# Altium schematic symbol library Reference_Voltage.SchLib: 263 symbols (part 2 of 3)
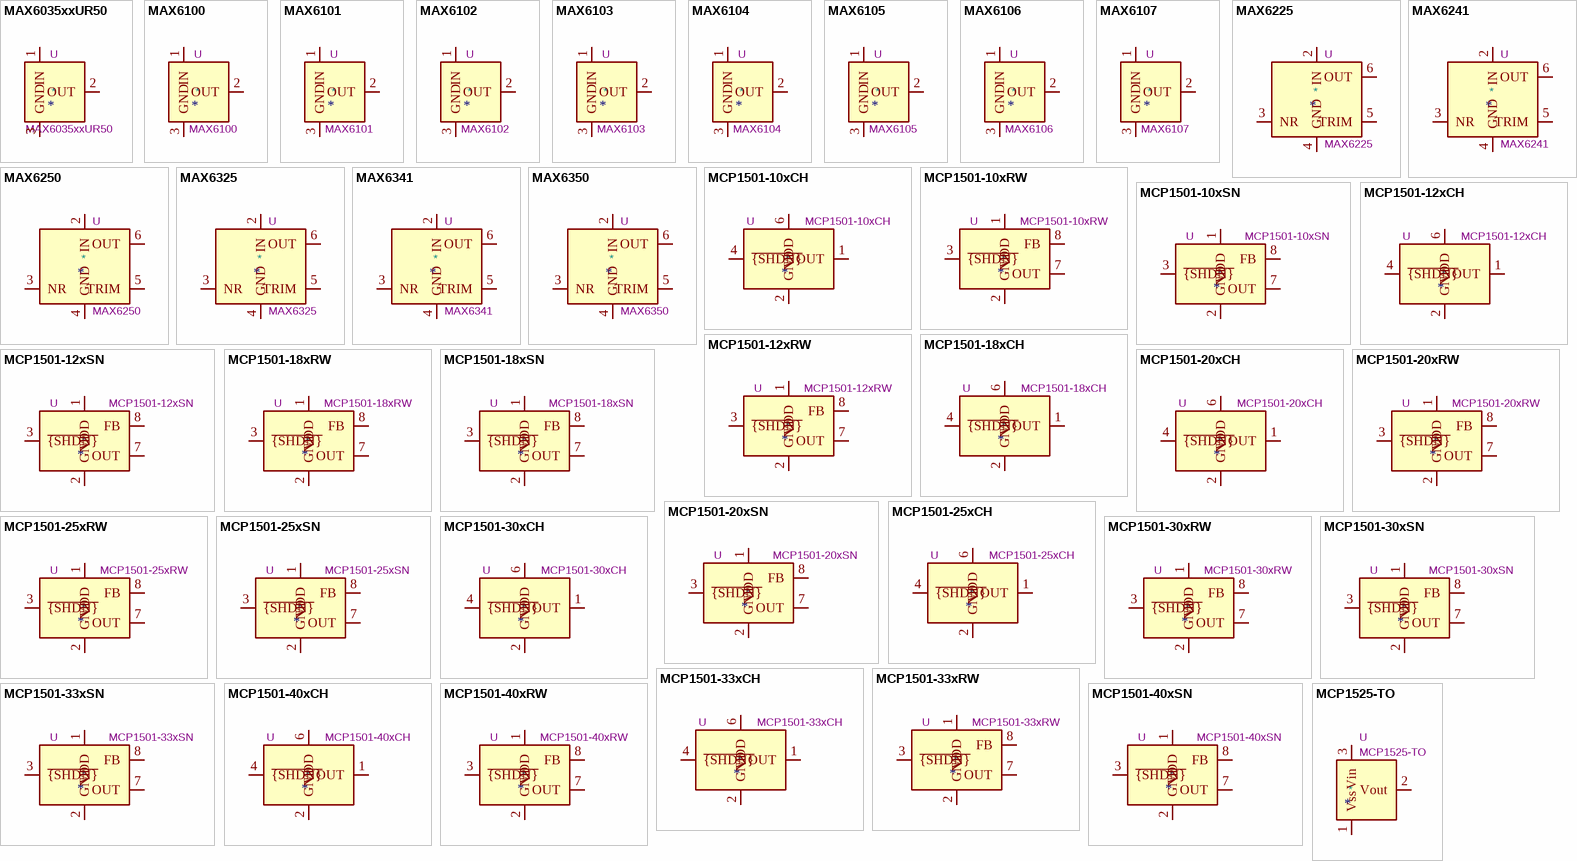
[diagram p7: symbols MAX6035xxUR50 to MCP1525-TO]

## MAX6107
designator *  value MAX6107  Reference: U
ki_keywords: voltage reference ldo; ki_description: Low-dropout high current voltage reference, 4.500V, ±0.4% accuracy, SOT-23; ki_fp_filters: SOT?23*; Footprint: Package_TO_SOT_SMD:SOT-23; Datasheet: http://datasheets.maximintegrated.com/en/ds/MAX6100-MAX6107.pdf
pins: 1 IN, 2 OUT, 3 GND

## MAX6225
designator *  value MAX6225  Reference: U
ki_keywords: precision voltage reference; ki_description: 1ppm/°C Low-Noise Precision +2.5V Voltage Reference, SO-8/DIP-8; ki_fp_filters: SOIC*P1.27mm* DIP*W7.62mm*; Datasheet: http://datasheets.maximintegrated.com/en/ds/MAX6225-MAX6250.pdf
pins: 1 NC hidden, 2 IN, 3 NR, 4 GND, 5 TRIM, 6 OUT, 7 NC hidden, 8 NC hidden

## MAX6241
designator *  value MAX6241  Reference: U
ki_keywords: precision voltage reference; ki_description: 1ppm/°C Low-Noise Precision +4.096V Voltage Reference, SO-8/DIP-8; ki_fp_filters: SOIC*P1.27mm* DIP*W7.62mm*; Datasheet: http://datasheets.maximintegrated.com/en/ds/MAX6225-MAX6250.pdf
pins: 1 NC hidden, 2 IN, 3 NR, 4 GND, 5 TRIM, 6 OUT, 7 NC hidden, 8 NC hidden

## MAX6250
designator *  value MAX6250  Reference: U
ki_keywords: precision voltage reference; ki_description: 1ppm/°C Low-Noise Precision +5V Voltage Reference, SO-8/DIP-8; ki_fp_filters: SOIC*P1.27mm* DIP*W7.62mm*; Datasheet: http://datasheets.maximintegrated.com/en/ds/MAX6225-MAX6250.pdf
pins: 1 NC hidden, 2 IN, 3 NR, 4 GND, 5 TRIM, 6 OUT, 7 NC hidden, 8 NC hidden

## MAX6325
designator *  value MAX6325  Reference: U
ki_keywords: precision voltage reference; ki_description: 0.5ppm/°C Low-Noise +2.5V Voltage Reference, SO-8/DIP-8; ki_fp_filters: SOIC*P1.27mm* DIP*W7.62mm*; Datasheet: http://datasheets.maximintegrated.com/en/ds/MAX6325-MAX6350.pdf
pins: 1 NC hidden, 2 IN, 3 NR, 4 GND, 5 TRIM, 6 OUT, 7 NC hidden, 8 NC hidden

## MAX6341
designator *  value MAX6341  Reference: U
ki_keywords: precision voltage reference; ki_description: 0.5ppm/°C Low-Noise +4.096V Voltage Reference, SO-8/DIP-8; ki_fp_filters: SOIC*P1.27mm* DIP*W7.62mm*; Datasheet: http://datasheets.maximintegrated.com/en/ds/MAX6325-MAX6350.pdf
pins: 1 NC hidden, 2 IN, 3 NR, 4 GND, 5 TRIM, 6 OUT, 7 NC hidden, 8 NC hidden

## MAX6350
designator *  value MAX6350  Reference: U
ki_keywords: precision voltage reference; ki_description: 0.5ppm/°C Low-Noise +5V Voltage Reference, SO-8/DIP-8; ki_fp_filters: SOIC*P1.27mm* DIP*W7.62mm*; Datasheet: http://datasheets.maximintegrated.com/en/ds/MAX6325-MAX6350.pdf
pins: 1 NC hidden, 2 IN, 3 NR, 4 GND, 5 TRIM, 6 OUT, 7 NC hidden, 8 NC hidden

## MCP1501-10xCH
designator *  value MCP1501-10xCH  Reference: U
ki_keywords: precision buffered voltage reference 1.024V; ki_description: 1.024V, 0.1%, 20mA, Precision Voltage Reference, SOT-23-6; ki_fp_filters: SOT?23*; Footprint: Package_TO_SOT_SMD:SOT-23-6; Datasheet: http://ww1.microchip.com/downloads/en/DeviceDoc/20005474E.pdf
pins: 1 OUT, 2 GND, 3 GND hidden, 4 ~{{SHDN}}, 5 GND hidden, 6 VDD

## MCP1501-10xRW
designator *  value MCP1501-10xRW  Reference: U
ki_keywords: precision buffered voltage reference 1.024V; ki_description: 1.024V, 0.1%, 20mA, Precision Voltage Reference, WDFN-8; ki_fp_filters: WDFN*1EP*2x2mm*P0.5mm*; Footprint: Package_DFN_QFN:WDFN-8-1EP_2x2mm_P0.5mm_EP0.8x1.2mm; Datasheet: http://ww1.microchip.com/downloads/en/DeviceDoc/20005474E.pdf
pins: 1 VDD, 2 GND, 3 ~{{SHDN}}, 4 GND hidden, 5 GND hidden, 6 GND hidden, 7 OUT, 8 FB

## MCP1501-10xSN
designator *  value MCP1501-10xSN  Reference: U
ki_keywords: precision buffered voltage reference 1.024V; ki_description: 1.024V, 0.1%, 20mA, Precision Voltage Reference, SOIC-8; ki_fp_filters: SOIC*3.9x4.9mm*P1.27mm*; Footprint: Package_SO:SOIC-8_3.9x4.9mm_P1.27mm; Datasheet: http://ww1.microchip.com/downloads/en/DeviceDoc/20005474E.pdf
pins: 1 VDD, 2 GND, 3 ~{{SHDN}}, 4 GND hidden, 5 GND hidden, 6 GND hidden, 7 OUT, 8 FB

## MCP1501-12xCH
designator *  value MCP1501-12xCH  Reference: U
ki_keywords: precision buffered voltage reference 1.25V; ki_description: 1.25V, 0.1%, 20mA, Precision Voltage Reference, SOT-23-6; ki_fp_filters: SOT?23*; Footprint: Package_TO_SOT_SMD:SOT-23-6; Datasheet: http://ww1.microchip.com/downloads/en/DeviceDoc/20005474E.pdf
pins: 1 OUT, 2 GND, 3 GND hidden, 4 ~{{SHDN}}, 5 GND hidden, 6 VDD

## MCP1501-12xRW
designator *  value MCP1501-12xRW  Reference: U
ki_keywords: precision buffered voltage reference 1.25V; ki_description: 1.25V, 0.1%, 20mA, Precision Voltage Reference, WDFN-8; ki_fp_filters: WDFN*1EP*2x2mm*P0.5mm*; Footprint: Package_DFN_QFN:WDFN-8-1EP_2x2mm_P0.5mm_EP0.8x1.2mm; Datasheet: http://ww1.microchip.com/downloads/en/DeviceDoc/20005474E.pdf
pins: 1 VDD, 2 GND, 3 ~{{SHDN}}, 4 GND hidden, 5 GND hidden, 6 GND hidden, 7 OUT, 8 FB

## MCP1501-12xSN
designator *  value MCP1501-12xSN  Reference: U
ki_keywords: precision buffered voltage reference 1.25V; ki_description: 1.25V, 0.1%, 20mA, Precision Voltage Reference, SOIC-8; ki_fp_filters: SOIC*3.9x4.9mm*P1.27mm*; Footprint: Package_SO:SOIC-8_3.9x4.9mm_P1.27mm; Datasheet: http://ww1.microchip.com/downloads/en/DeviceDoc/20005474E.pdf
pins: 1 VDD, 2 GND, 3 ~{{SHDN}}, 4 GND hidden, 5 GND hidden, 6 GND hidden, 7 OUT, 8 FB

## MCP1501-18xCH
designator *  value MCP1501-18xCH  Reference: U
ki_keywords: precision buffered voltage reference 1.8V; ki_description: 1.8V, 0.1%, 20mA, Precision Voltage Reference, SOT-23-6; ki_fp_filters: SOT?23*; Footprint: Package_TO_SOT_SMD:SOT-23-6; Datasheet: http://ww1.microchip.com/downloads/en/DeviceDoc/20005474E.pdf
pins: 1 OUT, 2 GND, 3 GND hidden, 4 ~{{SHDN}}, 5 GND hidden, 6 VDD

## MCP1501-18xRW
designator *  value MCP1501-18xRW  Reference: U
ki_keywords: precision buffered voltage reference 1.8V; ki_description: 1.8V, 0.1%, 20mA, Precision Voltage Reference, WDFN-8; ki_fp_filters: WDFN*1EP*2x2mm*P0.5mm*; Footprint: Package_DFN_QFN:WDFN-8-1EP_2x2mm_P0.5mm_EP0.8x1.2mm; Datasheet: http://ww1.microchip.com/downloads/en/DeviceDoc/20005474E.pdf
pins: 1 VDD, 2 GND, 3 ~{{SHDN}}, 4 GND hidden, 5 GND hidden, 6 GND hidden, 7 OUT, 8 FB

## MCP1501-18xSN
designator *  value MCP1501-18xSN  Reference: U
ki_keywords: precision buffered voltage reference 1.8V; ki_description: 1.8V, 0.1%, 20mA, Precision Voltage Reference, SOIC-8; ki_fp_filters: SOIC*3.9x4.9mm*P1.27mm*; Footprint: Package_SO:SOIC-8_3.9x4.9mm_P1.27mm; Datasheet: http://ww1.microchip.com/downloads/en/DeviceDoc/20005474E.pdf
pins: 1 VDD, 2 GND, 3 ~{{SHDN}}, 4 GND hidden, 5 GND hidden, 6 GND hidden, 7 OUT, 8 FB

## MCP1501-20xCH
designator *  value MCP1501-20xCH  Reference: U
ki_keywords: precision buffered voltage reference 2.048V; ki_description: 2.048V, 0.1%, 20mA, Precision Voltage Reference, SOT-23-6; ki_fp_filters: SOT?23*; Footprint: Package_TO_SOT_SMD:SOT-23-6; Datasheet: http://ww1.microchip.com/downloads/en/DeviceDoc/20005474E.pdf
pins: 1 OUT, 2 GND, 3 GND hidden, 4 ~{{SHDN}}, 5 GND hidden, 6 VDD

## MCP1501-20xRW
designator *  value MCP1501-20xRW  Reference: U
ki_keywords: precision buffered voltage reference 2.048V; ki_description: 2.048V, 0.1%, 20mA, Precision Voltage Reference, WDFN-8; ki_fp_filters: WDFN*1EP*2x2mm*P0.5mm*; Footprint: Package_DFN_QFN:WDFN-8-1EP_2x2mm_P0.5mm_EP0.8x1.2mm; Datasheet: http://ww1.microchip.com/downloads/en/DeviceDoc/20005474E.pdf
pins: 1 VDD, 2 GND, 3 ~{{SHDN}}, 4 GND hidden, 5 GND hidden, 6 GND hidden, 7 OUT, 8 FB

## MCP1501-20xSN
designator *  value MCP1501-20xSN  Reference: U
ki_keywords: precision buffered voltage reference 2.048V; ki_description: 2.048V, 0.1%, 20mA, Precision Voltage Reference, SOIC-8; ki_fp_filters: SOIC*3.9x4.9mm*P1.27mm*; Footprint: Package_SO:SOIC-8_3.9x4.9mm_P1.27mm; Datasheet: http://ww1.microchip.com/downloads/en/DeviceDoc/20005474E.pdf
pins: 1 VDD, 2 GND, 3 ~{{SHDN}}, 4 GND hidden, 5 GND hidden, 6 GND hidden, 7 OUT, 8 FB

## MCP1501-25xCH
designator *  value MCP1501-25xCH  Reference: U
ki_keywords: precision buffered voltage reference 2.5V; ki_description: 2.5V, 0.1%, 20mA, Precision Voltage Reference, SOT-23-6; ki_fp_filters: SOT?23*; Footprint: Package_TO_SOT_SMD:SOT-23-6; Datasheet: http://ww1.microchip.com/downloads/en/DeviceDoc/20005474E.pdf
pins: 1 OUT, 2 GND, 3 GND hidden, 4 ~{{SHDN}}, 5 GND hidden, 6 VDD

## MCP1501-25xRW
designator *  value MCP1501-25xRW  Reference: U
ki_keywords: precision buffered voltage reference 2.5V; ki_description: 2.5V, 0.1%, 20mA, Precision Voltage Reference, WDFN-8; ki_fp_filters: WDFN*1EP*2x2mm*P0.5mm*; Footprint: Package_DFN_QFN:WDFN-8-1EP_2x2mm_P0.5mm_EP0.8x1.2mm; Datasheet: http://ww1.microchip.com/downloads/en/DeviceDoc/20005474E.pdf
pins: 1 VDD, 2 GND, 3 ~{{SHDN}}, 4 GND hidden, 5 GND hidden, 6 GND hidden, 7 OUT, 8 FB

## MCP1501-25xSN
designator *  value MCP1501-25xSN  Reference: U
ki_keywords: precision buffered voltage reference 2.5V; ki_description: 2.5V, 0.1%, 20mA, Precision Voltage Reference, SOIC-8; ki_fp_filters: SOIC*3.9x4.9mm*P1.27mm*; Footprint: Package_SO:SOIC-8_3.9x4.9mm_P1.27mm; Datasheet: http://ww1.microchip.com/downloads/en/DeviceDoc/20005474E.pdf
pins: 1 VDD, 2 GND, 3 ~{{SHDN}}, 4 GND hidden, 5 GND hidden, 6 GND hidden, 7 OUT, 8 FB

## MCP1501-30xCH
designator *  value MCP1501-30xCH  Reference: U
ki_keywords: precision buffered voltage reference 3V; ki_description: 3V, 0.1%, 20mA, Precision Voltage Reference, SOT-23-6; ki_fp_filters: SOT?23*; Footprint: Package_TO_SOT_SMD:SOT-23-6; Datasheet: http://ww1.microchip.com/downloads/en/DeviceDoc/20005474E.pdf
pins: 1 OUT, 2 GND, 3 GND hidden, 4 ~{{SHDN}}, 5 GND hidden, 6 VDD

## MCP1501-30xRW
designator *  value MCP1501-30xRW  Reference: U
ki_keywords: precision buffered voltage reference 3V; ki_description: 3V, 0.1%, 20mA, Precision Voltage Reference, WDFN-8; ki_fp_filters: WDFN*1EP*2x2mm*P0.5mm*; Footprint: Package_DFN_QFN:WDFN-8-1EP_2x2mm_P0.5mm_EP0.8x1.2mm; Datasheet: http://ww1.microchip.com/downloads/en/DeviceDoc/20005474E.pdf
pins: 1 VDD, 2 GND, 3 ~{{SHDN}}, 4 GND hidden, 5 GND hidden, 6 GND hidden, 7 OUT, 8 FB

## MCP1501-30xSN
designator *  value MCP1501-30xSN  Reference: U
ki_keywords: precision buffered voltage reference 3V; ki_description: 3V, 0.1%, 20mA, Precision Voltage Reference, SOIC-8; ki_fp_filters: SOIC*3.9x4.9mm*P1.27mm*; Footprint: Package_SO:SOIC-8_3.9x4.9mm_P1.27mm; Datasheet: http://ww1.microchip.com/downloads/en/DeviceDoc/20005474E.pdf
pins: 1 VDD, 2 GND, 3 ~{{SHDN}}, 4 GND hidden, 5 GND hidden, 6 GND hidden, 7 OUT, 8 FB

## MCP1501-33xCH
designator *  value MCP1501-33xCH  Reference: U
ki_keywords: precision buffered voltage reference 3.3V; ki_description: 3.3V, 0.1%, 20mA, Precision Voltage Reference, SOT-23-6; ki_fp_filters: SOT?23*; Footprint: Package_TO_SOT_SMD:SOT-23-6; Datasheet: http://ww1.microchip.com/downloads/en/DeviceDoc/20005474E.pdf
pins: 1 OUT, 2 GND, 3 GND hidden, 4 ~{{SHDN}}, 5 GND hidden, 6 VDD

## MCP1501-33xRW
designator *  value MCP1501-33xRW  Reference: U
ki_keywords: precision buffered voltage reference 3.3V; ki_description: 3.3V, 0.1%, 20mA, Precision Voltage Reference, WDFN-8; ki_fp_filters: WDFN*1EP*2x2mm*P0.5mm*; Footprint: Package_DFN_QFN:WDFN-8-1EP_2x2mm_P0.5mm_EP0.8x1.2mm; Datasheet: http://ww1.microchip.com/downloads/en/DeviceDoc/20005474E.pdf
pins: 1 VDD, 2 GND, 3 ~{{SHDN}}, 4 GND hidden, 5 GND hidden, 6 GND hidden, 7 OUT, 8 FB

## MCP1501-33xSN
designator *  value MCP1501-33xSN  Reference: U
ki_keywords: precision buffered voltage reference 3.3V; ki_description: 3.3V, 0.1%, 20mA, Precision Voltage Reference, SOIC-8; ki_fp_filters: SOIC*3.9x4.9mm*P1.27mm*; Footprint: Package_SO:SOIC-8_3.9x4.9mm_P1.27mm; Datasheet: http://ww1.microchip.com/downloads/en/DeviceDoc/20005474E.pdf
pins: 1 VDD, 2 GND, 3 ~{{SHDN}}, 4 GND hidden, 5 GND hidden, 6 GND hidden, 7 OUT, 8 FB

## MCP1501-40xCH
designator *  value MCP1501-40xCH  Reference: U
ki_keywords: precision buffered voltage reference 4.096V; ki_description: 4.096V, 0.1%, 20mA, Precision Voltage Reference, SOT-23-6; ki_fp_filters: SOT?23*; Footprint: Package_TO_SOT_SMD:SOT-23-6; Datasheet: http://ww1.microchip.com/downloads/en/DeviceDoc/20005474E.pdf
pins: 1 OUT, 2 GND, 3 GND hidden, 4 ~{{SHDN}}, 5 GND hidden, 6 VDD

## MCP1501-40xRW
designator *  value MCP1501-40xRW  Reference: U
ki_keywords: precision buffered voltage reference 4.096V; ki_description: 4.096V, 0.1%, 20mA, Precision Voltage Reference, WDFN-8; ki_fp_filters: WDFN*1EP*2x2mm*P0.5mm*; Footprint: Package_DFN_QFN:WDFN-8-1EP_2x2mm_P0.5mm_EP0.8x1.2mm; Datasheet: http://ww1.microchip.com/downloads/en/DeviceDoc/20005474E.pdf
pins: 1 VDD, 2 GND, 3 ~{{SHDN}}, 4 GND hidden, 5 GND hidden, 6 GND hidden, 7 OUT, 8 FB

## MCP1501-40xSN
designator *  value MCP1501-40xSN  Reference: U
ki_keywords: precision buffered voltage reference 4.096V; ki_description: 4.096V, 0.1%, 20mA, Precision Voltage Reference, SOIC-8; ki_fp_filters: SOIC*3.9x4.9mm*P1.27mm*; Footprint: Package_SO:SOIC-8_3.9x4.9mm_P1.27mm; Datasheet: http://ww1.microchip.com/downloads/en/DeviceDoc/20005474E.pdf
pins: 1 VDD, 2 GND, 3 ~{{SHDN}}, 4 GND hidden, 5 GND hidden, 6 GND hidden, 7 OUT, 8 FB

## MCP1525-TO
designator *  value MCP1525-TO  Reference: U
ki_keywords: Voltage Reference 2.5V; ki_description: 2.5V Voltage Reference, TO-92; ki_fp_filters: TO*92*; Footprint: Package_TO_SOT_THT:TO-92_Inline; Datasheet: http://ww1.microchip.com/downloads/en/devicedoc/21653b.pdf
pins: 1 Vss, 2 Vout, 3 Vin

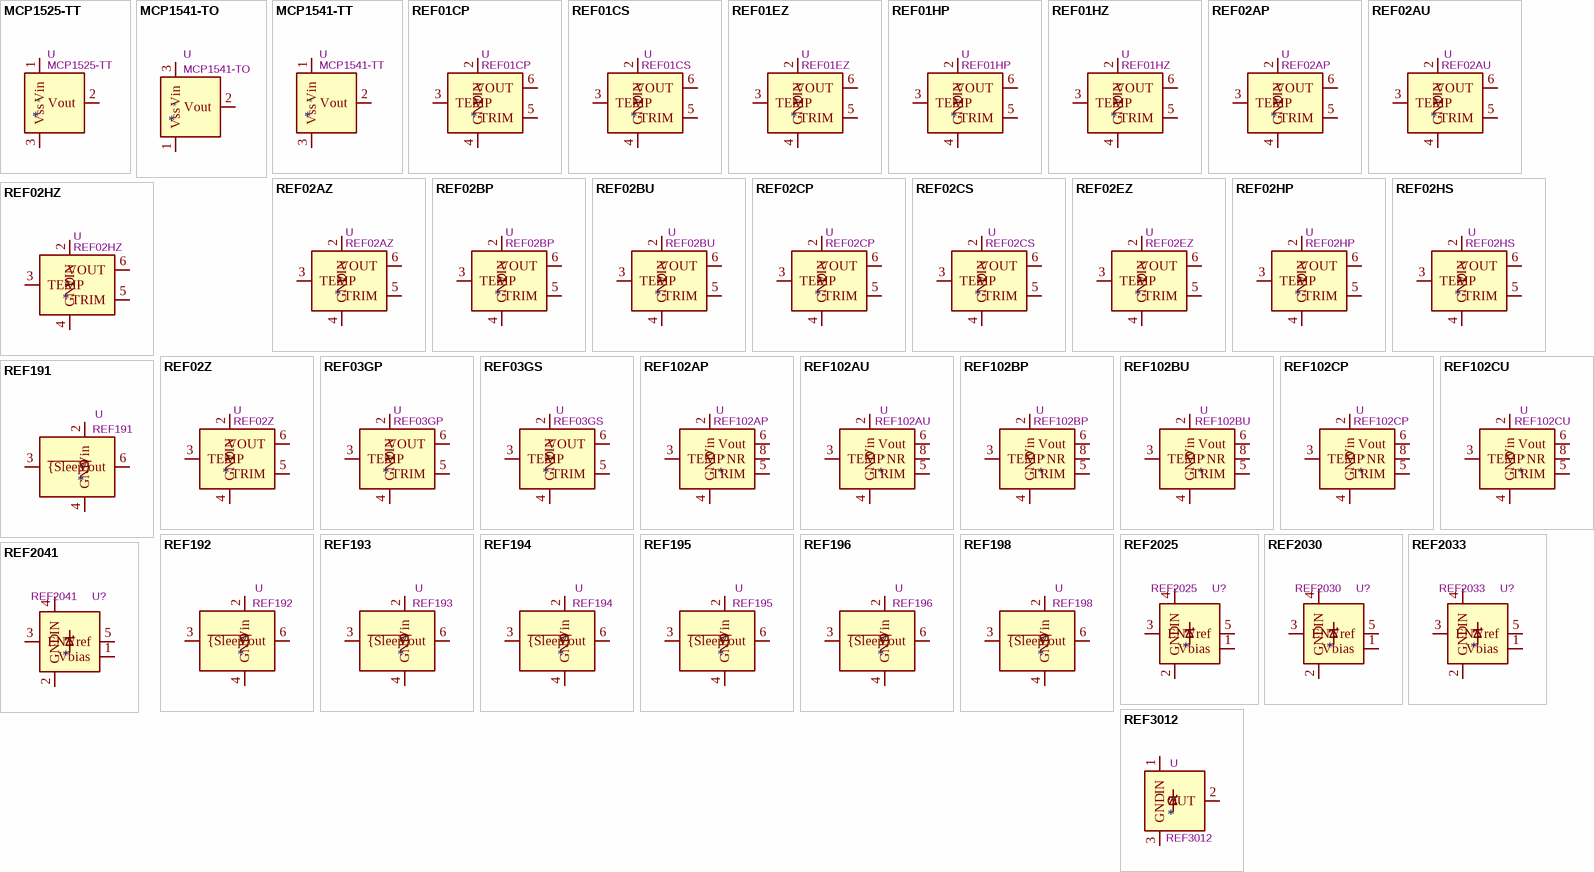
[diagram p4: symbols MCP1525-TT to REF3012]

## MCP1525-TT
designator *  value MCP1525-TT  Reference: U
ki_keywords: Voltage Reference 2.5V; ki_description: 2.5V Voltage Reference, SOT-23; ki_fp_filters: SOT?23*; Footprint: Package_TO_SOT_SMD:SOT-23; Datasheet: http://ww1.microchip.com/downloads/en/devicedoc/21653b.pdf
pins: 1 Vin, 2 Vout, 3 Vss

## MCP1541-TO
designator *  value MCP1541-TO  Reference: U
ki_keywords: Voltage Reference 4.096V; ki_description: 4.096V Voltage Reference, TO-92; ki_fp_filters: TO*92*; Footprint: Package_TO_SOT_THT:TO-92_Inline; Datasheet: http://ww1.microchip.com/downloads/en/devicedoc/21653b.pdf
pins: 1 Vss, 2 Vout, 3 Vin

## MCP1541-TT
designator *  value MCP1541-TT  Reference: U
ki_keywords: Voltage Reference 4.096V; ki_description: 4.096V Voltage Reference, SOT-23; ki_fp_filters: SOT?23*; Footprint: Package_TO_SOT_SMD:SOT-23; Datasheet: http://ww1.microchip.com/downloads/en/devicedoc/21653b.pdf
pins: 1 Vin, 2 Vout, 3 Vss

## REF01CP
designator *  value REF01CP  Reference: U
ki_keywords: Precision Voltage Reference 10V; ki_description: 10V ±100mV Precision Voltage Reference, PDIP-8; ki_fp_filters: DIP*W7.62mm*; Footprint: Package_DIP:DIP-8_W7.62mm; Datasheet: https://www.analog.com/media/en/technical-documentation/data-sheets/REF01_02_03.pdf
pins: 1 NC hidden, 2 VIN, 3 TEMP, 4 GND, 5 TRIM, 6 VOUT, 7 NC hidden, 8 NC hidden

## REF01CS
designator *  value REF01CS  Reference: U
ki_keywords: Precision Voltage Reference 10V; ki_description: 10V ±100mV Precision Voltage Reference, SO-8; ki_fp_filters: SOIC*3.9x4.9mm*P1.27mm*; Footprint: Package_SO:SOIC-8_3.9x4.9mm_P1.27mm; Datasheet: https://www.analog.com/media/en/technical-documentation/data-sheets/REF01_02_03.pdf
pins: 1 NC hidden, 2 VIN, 3 TEMP, 4 GND, 5 TRIM, 6 VOUT, 7 NC hidden, 8 NC hidden

## REF01EZ
designator *  value REF01EZ  Reference: U
ki_keywords: Precision Voltage Reference 10V; ki_description: 10V ±30mV Precision Voltage Reference, CERDIP-8; ki_fp_filters: DIP*W7.62mm*; Footprint: Package_DIP:DIP-8_W7.62mm; Datasheet: https://www.analog.com/media/en/technical-documentation/data-sheets/REF01_02_03.pdf
pins: 1 NC hidden, 2 VIN, 3 TEMP, 4 GND, 5 TRIM, 6 VOUT, 7 NC hidden, 8 NC hidden

## REF01HP
designator *  value REF01HP  Reference: U
ki_keywords: Precision Voltage Reference 10V; ki_description: 10V ±50mV Precision Voltage Reference, PDIP-8; ki_fp_filters: DIP*W7.62mm*; Footprint: Package_DIP:DIP-8_W7.62mm; Datasheet: https://www.analog.com/media/en/technical-documentation/data-sheets/REF01_02_03.pdf
pins: 1 NC hidden, 2 VIN, 3 TEMP, 4 GND, 5 TRIM, 6 VOUT, 7 NC hidden, 8 NC hidden

## REF01HZ
designator *  value REF01HZ  Reference: U
ki_keywords: Precision Voltage Reference 10V; ki_description: 10V ±50mV Precision Voltage Reference, CERDIP-8; ki_fp_filters: DIP*W7.62mm*; Footprint: Package_DIP:DIP-8_W7.62mm; Datasheet: https://www.analog.com/media/en/technical-documentation/data-sheets/REF01_02_03.pdf
pins: 1 NC hidden, 2 VIN, 3 TEMP, 4 GND, 5 TRIM, 6 VOUT, 7 NC hidden, 8 NC hidden

## REF02AP
designator *  value REF02AP  Reference: U
ki_keywords: Precision Voltage Reference 5V; ki_description: 5V ±15mV Precision Voltage Reference, PDIP-8; ki_fp_filters: DIP*W7.62mm*; Footprint: Package_DIP:DIP-8_W7.62mm; Datasheet: http://www.ti.com/lit/ds/symlink/ref02.pdf
pins: 1 NC hidden, 2 VIN, 3 TEMP, 4 GND, 5 TRIM, 6 VOUT, 7 NC hidden, 8 NC hidden

## REF02AU
designator *  value REF02AU  Reference: U
ki_keywords: Precision Voltage Reference 5V; ki_description: 5V ±15mV Precision Voltage Reference, SO-8; ki_fp_filters: SOIC*3.9x4.9mm*P1.27mm*; Footprint: Package_SO:SOIC-8_3.9x4.9mm_P1.27mm; Datasheet: http://www.ti.com/lit/ds/symlink/ref02.pdf
pins: 1 NC hidden, 2 VIN, 3 TEMP, 4 GND, 5 TRIM, 6 VOUT, 7 NC hidden, 8 NC hidden

## REF02AZ
designator *  value REF02AZ  Reference: U
ki_keywords: Precision Voltage Reference 5V; ki_description: 5V ±15mV Precision Voltage Reference, CERDIP-8; ki_fp_filters: DIP*W7.62mm*; Footprint: Package_DIP:DIP-8_W7.62mm; Datasheet: https://www.analog.com/media/en/technical-documentation/data-sheets/REF01_02_03.pdf
pins: 1 NC hidden, 2 VIN, 3 TEMP, 4 GND, 5 TRIM, 6 VOUT, 7 NC hidden, 8 NC hidden

## REF02BP
designator *  value REF02BP  Reference: U
ki_keywords: Precision Voltage Reference 5V; ki_description: 5V ±10mV Precision Voltage Reference, PDIP-8; ki_fp_filters: DIP*W7.62mm*; Footprint: Package_DIP:DIP-8_W7.62mm; Datasheet: http://www.ti.com/lit/ds/symlink/ref02.pdf
pins: 1 NC hidden, 2 VIN, 3 TEMP, 4 GND, 5 TRIM, 6 VOUT, 7 NC hidden, 8 NC hidden

## REF02BU
designator *  value REF02BU  Reference: U
ki_keywords: Precision Voltage Reference 5V; ki_description: 5V ±10mV Precision Voltage Reference, SO-8; ki_fp_filters: SOIC*3.9x4.9mm*P1.27mm*; Footprint: Package_SO:SOIC-8_3.9x4.9mm_P1.27mm; Datasheet: http://www.ti.com/lit/ds/symlink/ref02.pdf
pins: 1 NC hidden, 2 VIN, 3 TEMP, 4 GND, 5 TRIM, 6 VOUT, 7 NC hidden, 8 NC hidden

## REF02CP
designator *  value REF02CP  Reference: U
ki_keywords: Precision Voltage Reference 5V; ki_description: 5V ±50mV Precision Voltage Reference, PDIP-8; ki_fp_filters: DIP*W7.62mm*; Footprint: Package_DIP:DIP-8_W7.62mm; Datasheet: https://www.analog.com/media/en/technical-documentation/data-sheets/REF01_02_03.pdf
pins: 1 NC hidden, 2 VIN, 3 TEMP, 4 GND, 5 TRIM, 6 VOUT, 7 NC hidden, 8 NC hidden

## REF02CS
designator *  value REF02CS  Reference: U
ki_keywords: Precision Voltage Reference 5V; ki_description: 5V ±50mV Precision Voltage Reference, SO-8; ki_fp_filters: SOIC*3.9x4.9mm*P1.27mm*; Footprint: Package_SO:SOIC-8_3.9x4.9mm_P1.27mm; Datasheet: https://www.analog.com/media/en/technical-documentation/data-sheets/REF01_02_03.pdf
pins: 1 NC hidden, 2 VIN, 3 TEMP, 4 GND, 5 TRIM, 6 VOUT, 7 NC hidden, 8 NC hidden

## REF02EZ
designator *  value REF02EZ  Reference: U
ki_keywords: Precision Voltage Reference 5V; ki_description: 5V ±15mV Precision Voltage Reference, CERDIP-8; ki_fp_filters: DIP*W7.62mm*; Footprint: Package_DIP:DIP-8_W7.62mm; Datasheet: https://www.analog.com/media/en/technical-documentation/data-sheets/REF01_02_03.pdf
pins: 1 NC hidden, 2 VIN, 3 TEMP, 4 GND, 5 TRIM, 6 VOUT, 7 NC hidden, 8 NC hidden

## REF02HP
designator *  value REF02HP  Reference: U
ki_keywords: Precision Voltage Reference 5V; ki_description: 5V ±25mV Precision Voltage Reference, PDIP-8; ki_fp_filters: DIP*W7.62mm*; Footprint: Package_DIP:DIP-8_W7.62mm; Datasheet: https://www.analog.com/media/en/technical-documentation/data-sheets/REF01_02_03.pdf
pins: 1 NC hidden, 2 VIN, 3 TEMP, 4 GND, 5 TRIM, 6 VOUT, 7 NC hidden, 8 NC hidden

## REF02HS
designator *  value REF02HS  Reference: U
ki_keywords: Precision Voltage Reference 5V; ki_description: 5V ±25mV Precision Voltage Reference, SO-8; ki_fp_filters: SOIC*3.9x4.9mm*P1.27mm*; Footprint: Package_SO:SOIC-8_3.9x4.9mm_P1.27mm; Datasheet: https://www.analog.com/media/en/technical-documentation/data-sheets/REF01_02_03.pdf
pins: 1 NC hidden, 2 VIN, 3 TEMP, 4 GND, 5 TRIM, 6 VOUT, 7 NC hidden, 8 NC hidden

## REF02HZ
designator *  value REF02HZ  Reference: U
ki_keywords: Precision Voltage Reference 5V; ki_description: 5V ±25mV Precision Voltage Reference, CERDIP-8; ki_fp_filters: DIP*W7.62mm*; Footprint: Package_DIP:DIP-8_W7.62mm; Datasheet: https://www.analog.com/media/en/technical-documentation/data-sheets/REF01_02_03.pdf
pins: 1 NC hidden, 2 VIN, 3 TEMP, 4 GND, 5 TRIM, 6 VOUT, 7 NC hidden, 8 NC hidden

## REF02Z
designator *  value REF02Z  Reference: U
ki_keywords: Precision Voltage Reference 5V; ki_description: 5V ±25mV Precision Voltage Reference, CERDIP-8; ki_fp_filters: DIP*W7.62mm*; Footprint: Package_DIP:DIP-8_W7.62mm; Datasheet: https://www.analog.com/media/en/technical-documentation/data-sheets/REF01_02_03.pdf
pins: 1 NC hidden, 2 VIN, 3 TEMP, 4 GND, 5 TRIM, 6 VOUT, 7 NC hidden, 8 NC hidden

## REF03GP
designator *  value REF03GP  Reference: U
ki_keywords: Precision Voltage Reference 2.5V; ki_description: 2.5V ±15mV Precision Voltage Reference, PDIP-8; ki_fp_filters: DIP*W7.62mm*; Footprint: Package_DIP:DIP-8_W7.62mm; Datasheet: https://www.analog.com/media/en/technical-documentation/data-sheets/REF01_02_03.pdf
pins: 1 NC hidden, 2 VIN, 3 TEMP, 4 GND, 5 TRIM, 6 VOUT, 7 NC hidden, 8 NC hidden

## REF03GS
designator *  value REF03GS  Reference: U
ki_keywords: Precision Voltage Reference 2.5V; ki_description: 2.5V ±15mV Precision Voltage Reference, SO-8; ki_fp_filters: SOIC*3.9x4.9mm*P1.27mm*; Footprint: Package_SO:SOIC-8_3.9x4.9mm_P1.27mm; Datasheet: https://www.analog.com/media/en/technical-documentation/data-sheets/REF01_02_03.pdf
pins: 1 NC hidden, 2 VIN, 3 TEMP, 4 GND, 5 TRIM, 6 VOUT, 7 NC hidden, 8 NC hidden

## REF102AP
designator *  value REF102AP  Reference: U
ki_keywords: Precision Voltage Reference 10V; ki_description: 10V ±10mV Precision Voltage Reference, PDIP-8; ki_fp_filters: DIP*W7.62mm*; Footprint: Package_DIP:DIP-8_W7.62mm; Datasheet: http://www.ti.com/lit/ds/symlink/ref102.pdf
pins: 1 NC hidden, 2 Vin, 3 TEMP, 4 GND, 5 TRIM, 6 Vout, 7 NC hidden, 8 NR

## REF102AU
designator *  value REF102AU  Reference: U
ki_keywords: Precision Voltage Reference 10V; ki_description: 10V ±10mV Precision Voltage Reference, SO-8; ki_fp_filters: SOIC*3.9x4.9mm*P1.27mm*; Footprint: Package_SO:SOIC-8_3.9x4.9mm_P1.27mm; Datasheet: http://www.ti.com/lit/ds/symlink/ref02.pdf
pins: 1 NC hidden, 2 Vin, 3 TEMP, 4 GND, 5 TRIM, 6 Vout, 7 NC hidden, 8 NR

## REF102BP
designator *  value REF102BP  Reference: U
ki_keywords: Precision Voltage Reference 10V; ki_description: 10V ±5mV Precision Voltage Reference, PDIP-8; ki_fp_filters: DIP*W7.62mm*; Footprint: Package_DIP:DIP-8_W7.62mm; Datasheet: http://www.ti.com/lit/ds/symlink/ref102.pdf
pins: 1 NC hidden, 2 Vin, 3 TEMP, 4 GND, 5 TRIM, 6 Vout, 7 NC hidden, 8 NR

## REF102BU
designator *  value REF102BU  Reference: U
ki_keywords: Precision Voltage Reference 10V; ki_description: 10V ±5mV Precision Voltage Reference, SO-8; ki_fp_filters: SOIC*3.9x4.9mm*P1.27mm*; Footprint: Package_SO:SOIC-8_3.9x4.9mm_P1.27mm; Datasheet: http://www.ti.com/lit/ds/symlink/ref02.pdf
pins: 1 NC hidden, 2 Vin, 3 TEMP, 4 GND, 5 TRIM, 6 Vout, 7 NC hidden, 8 NR

## REF102CP
designator *  value REF102CP  Reference: U
ki_keywords: Precision Voltage Reference 10V; ki_description: 10V ±2.5mV Precision Voltage Reference, PDIP-8; ki_fp_filters: DIP*W7.62mm*; Footprint: Package_DIP:DIP-8_W7.62mm; Datasheet: http://www.ti.com/lit/ds/symlink/ref102.pdf
pins: 1 NC hidden, 2 Vin, 3 TEMP, 4 GND, 5 TRIM, 6 Vout, 7 NC hidden, 8 NR

## REF102CU
designator *  value REF102CU  Reference: U
ki_keywords: Precision Voltage Reference 10V; ki_description: 10V ±2.5mV Precision Voltage Reference, SO-8; ki_fp_filters: SOIC*3.9x4.9mm*P1.27mm*; Footprint: Package_SO:SOIC-8_3.9x4.9mm_P1.27mm; Datasheet: http://www.ti.com/lit/ds/symlink/ref02.pdf
pins: 1 NC hidden, 2 Vin, 3 TEMP, 4 GND, 5 TRIM, 6 Vout, 7 NC hidden, 8 NR

## REF191
designator *  value REF191  Reference: U
ki_keywords: Precision voltage references; ki_description: Precision voltage references 2.048V, DIP-8/SO-8/TSSOP-8; ki_fp_filters: DIP*W7.62mm* SOIC*3.9x4.9m*P1.27mm* TSSOP*4.4x3mm*P0.65mm*; Datasheet: https://www.analog.com/static/imported-files/data_sheets/REF19xSeries.pdf
pins: 1 TP hidden, 2 Vin, 3 ~{{Sleep}}, 4 GND, 5 TP hidden, 6 Vout, 7 NC hidden, 8 NC hidden

## REF192
designator *  value REF192  Reference: U
ki_keywords: Precision voltage references; ki_description: Precision voltage references 2.5V, DIP-8/SO-8/TSSOP-8; ki_fp_filters: DIP*W7.62mm* SOIC*3.9x4.9m*P1.27mm* TSSOP*4.4x3mm*P0.65mm*; Datasheet: https://www.analog.com/static/imported-files/data_sheets/REF19xSeries.pdf
pins: 1 TP hidden, 2 Vin, 3 ~{{Sleep}}, 4 GND, 5 TP hidden, 6 Vout, 7 NC hidden, 8 NC hidden

## REF193
designator *  value REF193  Reference: U
ki_keywords: Precision voltage references; ki_description: Precision voltage references 3V, DIP-8/SO-8/TSSOP-8; ki_fp_filters: DIP*W7.62mm* SOIC*3.9x4.9m*P1.27mm* TSSOP*4.4x3mm*P0.65mm*; Datasheet: https://www.analog.com/static/imported-files/data_sheets/REF19xSeries.pdf
pins: 1 TP hidden, 2 Vin, 3 ~{{Sleep}}, 4 GND, 5 TP hidden, 6 Vout, 7 NC hidden, 8 NC hidden

## REF194
designator *  value REF194  Reference: U
ki_keywords: Precision voltage references; ki_description: Precision voltage references 4.5V, DIP-8/SO-8/TSSOP-8; ki_fp_filters: DIP*W7.62mm* SOIC*3.9x4.9m*P1.27mm* TSSOP*4.4x3mm*P0.65mm*; Datasheet: https://www.analog.com/static/imported-files/data_sheets/REF19xSeries.pdf
pins: 1 TP hidden, 2 Vin, 3 ~{{Sleep}}, 4 GND, 5 TP hidden, 6 Vout, 7 NC hidden, 8 NC hidden

## REF195
designator *  value REF195  Reference: U
ki_keywords: Precision voltage references; ki_description: Precision voltage references 5V, DIP-8/SO-8/TSSOP-8; ki_fp_filters: DIP*W7.62mm* SOIC*3.9x4.9m*P1.27mm* TSSOP*4.4x3mm*P0.65mm*; Datasheet: https://www.analog.com/static/imported-files/data_sheets/REF19xSeries.pdf
pins: 1 TP hidden, 2 Vin, 3 ~{{Sleep}}, 4 GND, 5 TP hidden, 6 Vout, 7 NC hidden, 8 NC hidden

## REF196
designator *  value REF196  Reference: U
ki_keywords: Precision voltage references; ki_description: Precision voltage references 3.3V, DIP-8/SO-8/TSSOP-8; ki_fp_filters: DIP*W7.62mm* SOIC*3.9x4.9m*P1.27mm* TSSOP*4.4x3mm*P0.65mm*; Datasheet: https://www.analog.com/static/imported-files/data_sheets/REF19xSeries.pdf
pins: 1 TP hidden, 2 Vin, 3 ~{{Sleep}}, 4 GND, 5 TP hidden, 6 Vout, 7 NC hidden, 8 NC hidden

## REF198
designator *  value REF198  Reference: U
ki_keywords: Precision voltage references; ki_description: Precision voltage references 4.096V, DIP-8/SO-8/TSSOP-8; ki_fp_filters: DIP*W7.62mm* SOIC*3.9x4.9m*P1.27mm* TSSOP*4.4x3mm*P0.65mm*; Datasheet: https://www.analog.com/static/imported-files/data_sheets/REF19xSeries.pdf
pins: 1 TP hidden, 2 Vin, 3 ~{{Sleep}}, 4 GND, 5 TP hidden, 6 Vout, 7 NC hidden, 8 NC hidden

## REF2025
designator *  value REF2025  Reference: U?
ki_keywords: voltage reference; ki_description: 2.5V Low-Drift, Low-Power, Dual-Output, VREF and VREF / 2 Voltage Reference, SOT-23-5; ki_fp_filters: SOT?23*; Footprint: Package_TO_SOT_SMD:SOT-23-5; Datasheet: https://www.ti.com/lit/ds/symlink/ref2033.pdf
pins: 1 Vbias, 2 GND, 3 EN, 4 IN, 5 Vref

## REF2030
designator *  value REF2030  Reference: U?
ki_keywords: voltage reference; ki_description: 3.0V Low-Drift, Low-Power, Dual-Output, VREF and VREF / 2 Voltage Reference, SOT-23-5; ki_fp_filters: SOT?23*; Footprint: Package_TO_SOT_SMD:SOT-23-5; Datasheet: https://www.ti.com/lit/ds/symlink/ref2033.pdf
pins: 1 Vbias, 2 GND, 3 EN, 4 IN, 5 Vref

## REF2033
designator *  value REF2033  Reference: U?
ki_keywords: voltage reference; ki_description: 3.3V Low-Drift, Low-Power, Dual-Output, VREF and VREF / 2 Voltage Reference, SOT-23-5; ki_fp_filters: SOT?23*; Footprint: Package_TO_SOT_SMD:SOT-23-5; Datasheet: https://www.ti.com/lit/ds/symlink/ref2033.pdf
pins: 1 Vbias, 2 GND, 3 EN, 4 IN, 5 Vref

## REF2041
designator *  value REF2041  Reference: U?
ki_keywords: voltage reference; ki_description: 4.096V Low-Drift, Low-Power, Dual-Output, VREF and VREF / 2 Voltage Reference, SOT-23-5; ki_fp_filters: SOT?23*; Footprint: Package_TO_SOT_SMD:SOT-23-5; Datasheet: https://www.ti.com/lit/ds/symlink/ref2033.pdf
pins: 1 Vbias, 2 GND, 3 EN, 4 IN, 5 Vref

## REF3012
designator *  value REF3012  Reference: U
ki_keywords: voltage reference; ki_description: 1.25V 50-ppm/°C Max, 50-μA, CMOS Voltage Reference, SOT-23-3; ki_fp_filters: SOT?23*; Footprint: Package_TO_SOT_SMD:SOT-23; Datasheet: http://www.ti.com/lit/ds/symlink/ref3033.pdf
pins: 1 IN, 2 OUT, 3 GND

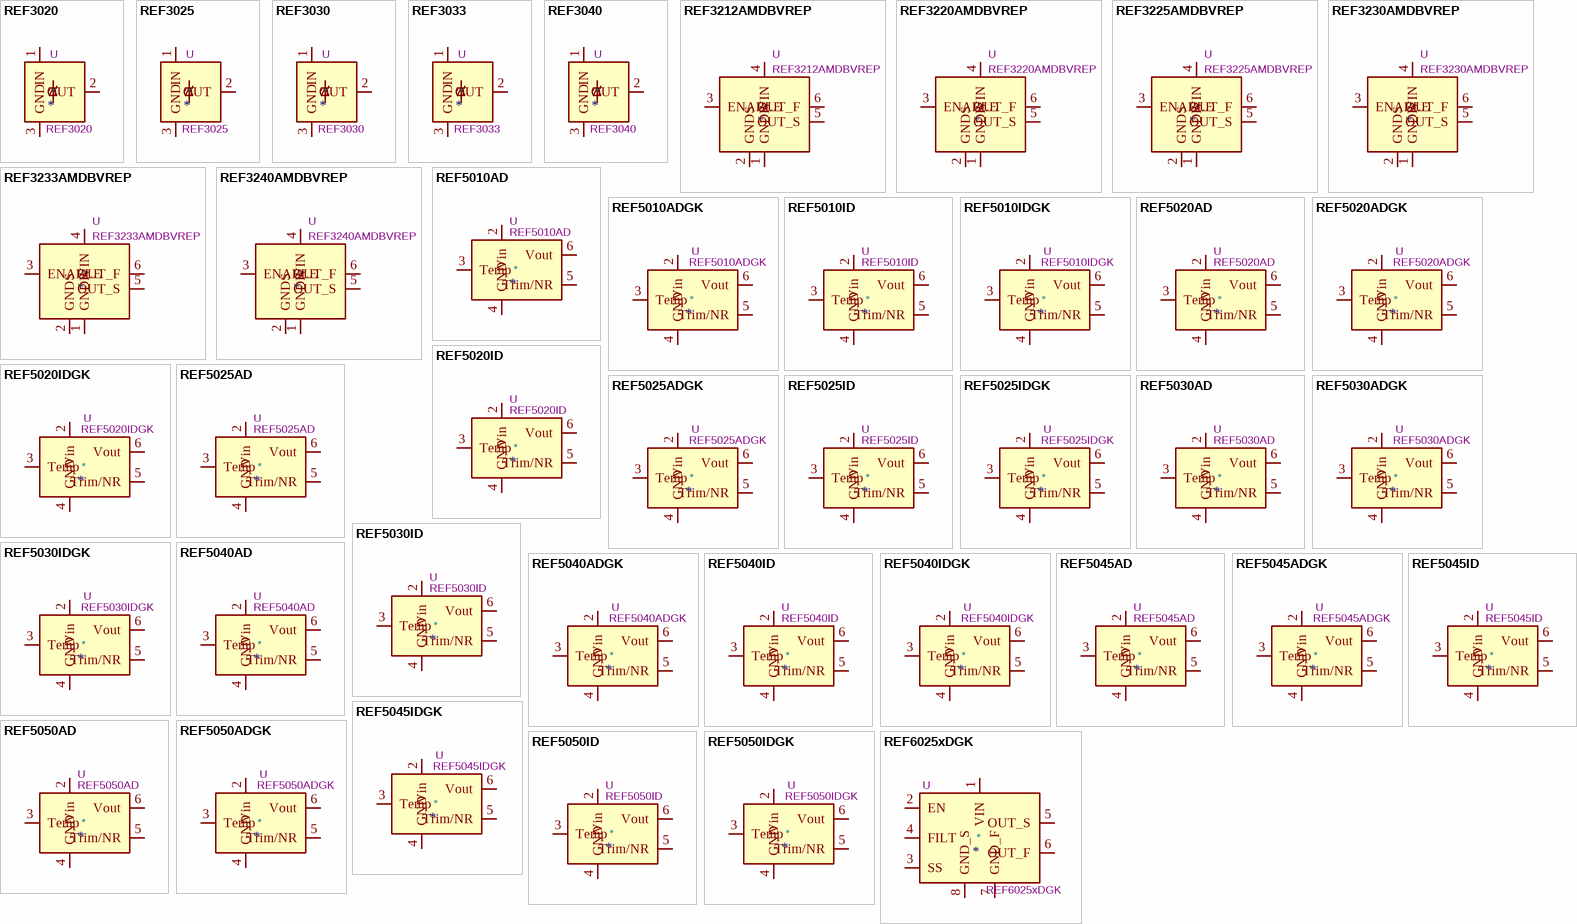
[diagram p5: symbols REF3020 to REF6025xDGK]

## REF3020
designator *  value REF3020  Reference: U
ki_keywords: voltage reference; ki_description: 2.048V 50-ppm/°C Max, 50-μA, CMOS Voltage Reference, SOT-23-3; ki_fp_filters: SOT?23*; Footprint: Package_TO_SOT_SMD:SOT-23; Datasheet: http://www.ti.com/lit/ds/symlink/ref3033.pdf
pins: 1 IN, 2 OUT, 3 GND

## REF3025
designator *  value REF3025  Reference: U
ki_keywords: voltage reference; ki_description: 2.500V 50-ppm/°C Max, 50-μA, CMOS Voltage Reference, SOT-23-3; ki_fp_filters: SOT?23*; Footprint: Package_TO_SOT_SMD:SOT-23; Datasheet: http://www.ti.com/lit/ds/symlink/ref3033.pdf
pins: 1 IN, 2 OUT, 3 GND

## REF3030
designator *  value REF3030  Reference: U
ki_keywords: voltage reference; ki_description: 3.0V 50-ppm/°C Max, 50-μA, CMOS Voltage Reference, SOT-23-3; ki_fp_filters: SOT?23*; Footprint: Package_TO_SOT_SMD:SOT-23; Datasheet: http://www.ti.com/lit/ds/symlink/ref3033.pdf
pins: 1 IN, 2 OUT, 3 GND

## REF3033
designator *  value REF3033  Reference: U
ki_keywords: voltage reference; ki_description: 3.3V 50-ppm/°C Max, 50-μA, CMOS Voltage Reference, SOT-23-3; ki_fp_filters: SOT?23*; Footprint: Package_TO_SOT_SMD:SOT-23; Datasheet: http://www.ti.com/lit/ds/symlink/ref3033.pdf
pins: 1 IN, 2 OUT, 3 GND

## REF3040
designator *  value REF3040  Reference: U
ki_keywords: voltage reference; ki_description: 4.096V 50-ppm/°C Max, 50-μA, CMOS Voltage Reference, SOT-23-3; ki_fp_filters: SOT?23*; Footprint: Package_TO_SOT_SMD:SOT-23; Datasheet: http://www.ti.com/lit/ds/symlink/ref3033.pdf
pins: 1 IN, 2 OUT, 3 GND

## REF3212AMDBVREP
designator *  value REF3212AMDBVREP  Reference: U
ki_keywords: Micropower Precision Voltage Reference 1.25V; ki_description: 1.25V 100μA Micropower Precision Voltage Reference, SOT-23-6; ki_fp_filters: SOT?23*; Footprint: Package_TO_SOT_SMD:SOT-23-6; Datasheet: http://www.ti.com/lit/ds/symlink/ref3240-ep.pdf
pins: 1 GNDF, 2 GNDS, 3 ENABLE, 4 VIN, 5 OUT_S, 6 OUT_F

## REF3220AMDBVREP
designator *  value REF3220AMDBVREP  Reference: U
ki_keywords: Micropower Precision Voltage Reference 2.048V; ki_description: 2.048V 100μA Micropower Precision Voltage Reference, SOT-23-6; ki_fp_filters: SOT?23*; Footprint: Package_TO_SOT_SMD:SOT-23-6; Datasheet: http://www.ti.com/lit/ds/symlink/ref3240-ep.pdf
pins: 1 GNDF, 2 GNDS, 3 ENABLE, 4 VIN, 5 OUT_S, 6 OUT_F

## REF3225AMDBVREP
designator *  value REF3225AMDBVREP  Reference: U
ki_keywords: Micropower Precision Voltage Reference 2.5V; ki_description: 2.5V 100μA Micropower Precision Voltage Reference, SOT-23-6; ki_fp_filters: SOT?23*; Footprint: Package_TO_SOT_SMD:SOT-23-6; Datasheet: http://www.ti.com/lit/ds/symlink/ref3240-ep.pdf
pins: 1 GNDF, 2 GNDS, 3 ENABLE, 4 VIN, 5 OUT_S, 6 OUT_F

## REF3230AMDBVREP
designator *  value REF3230AMDBVREP  Reference: U
ki_keywords: Micropower Precision Voltage Reference 3V; ki_description: 3V 100μA Micropower Precision Voltage Reference, SOT-23-6; ki_fp_filters: SOT?23*; Footprint: Package_TO_SOT_SMD:SOT-23-6; Datasheet: http://www.ti.com/lit/ds/symlink/ref3240-ep.pdf
pins: 1 GNDF, 2 GNDS, 3 ENABLE, 4 VIN, 5 OUT_S, 6 OUT_F

## REF3233AMDBVREP
designator *  value REF3233AMDBVREP  Reference: U
ki_keywords: Micropower Precision Voltage Reference 3.3V; ki_description: 3.3V 100μA Micropower Precision Voltage Reference, SOT-23-6; ki_fp_filters: SOT?23*; Footprint: Package_TO_SOT_SMD:SOT-23-6; Datasheet: http://www.ti.com/lit/ds/symlink/ref3240-ep.pdf
pins: 1 GNDF, 2 GNDS, 3 ENABLE, 4 VIN, 5 OUT_S, 6 OUT_F

## REF3240AMDBVREP
designator *  value REF3240AMDBVREP  Reference: U
ki_keywords: Micropower Precision Voltage Reference 4.096V; ki_description: 4.096V 100μA Micropower Precision Voltage Reference, SOT-23-6; ki_fp_filters: SOT?23*; Footprint: Package_TO_SOT_SMD:SOT-23-6; Datasheet: http://www.ti.com/lit/ds/symlink/ref3240-ep.pdf
pins: 1 GNDF, 2 GNDS, 3 ENABLE, 4 VIN, 5 OUT_S, 6 OUT_F

## REF5010AD
designator *  value REF5010AD  Reference: U
ki_keywords: Low Noise Precision Voltage Reference 10V; ki_description: 10V 0.1% 10mA Low Noise Precision Voltage Reference, SO-8; ki_fp_filters: SOIC*3.9x4.9mm*P1.27mm*; Footprint: Package_SO:SOIC-8_3.9x4.9mm_P1.27mm; Datasheet: http://www.ti.com/lit/ds/symlink/ref5030.pdf
pins: 1 DNC hidden, 2 Vin, 3 Temp, 4 GND, 5 Trim/NR, 6 Vout, 7 NC hidden, 8 DNC hidden

## REF5010ADGK
designator *  value REF5010ADGK  Reference: U
ki_keywords: Low Noise Precision Voltage Reference 10V; ki_description: 10V 0.1% 10mA Low Noise Precision Voltage Reference, MSOP-8; ki_fp_filters: MSOP*3x3mm*P0.65mm*; Footprint: Package_SO:MSOP-8_3x3mm_P0.65mm; Datasheet: http://www.ti.com/lit/ds/symlink/ref5030.pdf
pins: 1 DNC hidden, 2 Vin, 3 Temp, 4 GND, 5 Trim/NR, 6 Vout, 7 NC hidden, 8 DNC hidden

## REF5010ID
designator *  value REF5010ID  Reference: U
ki_keywords: Low Noise Precision Voltage Reference 10V; ki_description: 10V 0.05% 10mA Low Noise Precision Voltage Reference, SO-8; ki_fp_filters: SOIC*3.9x4.9mm*P1.27mm*; Footprint: Package_SO:SOIC-8_3.9x4.9mm_P1.27mm; Datasheet: http://www.ti.com/lit/ds/symlink/ref5030.pdf
pins: 1 DNC hidden, 2 Vin, 3 Temp, 4 GND, 5 Trim/NR, 6 Vout, 7 NC hidden, 8 DNC hidden

## REF5010IDGK
designator *  value REF5010IDGK  Reference: U
ki_keywords: Low Noise Precision Voltage Reference 10V; ki_description: 10V 0.05% 10mA Low Noise Precision Voltage Reference, MSOP-8; ki_fp_filters: MSOP*3x3mm*P0.65mm*; Footprint: Package_SO:MSOP-8_3x3mm_P0.65mm; Datasheet: http://www.ti.com/lit/ds/symlink/ref5030.pdf
pins: 1 DNC hidden, 2 Vin, 3 Temp, 4 GND, 5 Trim/NR, 6 Vout, 7 NC hidden, 8 DNC hidden

## REF5020AD
designator *  value REF5020AD  Reference: U
ki_keywords: Low Noise Precision Voltage Reference 2.048V; ki_description: 2.048V 0.1% 10mA Low Noise Precision Voltage Reference, SO-8; ki_fp_filters: SOIC*3.9x4.9mm*P1.27mm*; Footprint: Package_SO:SOIC-8_3.9x4.9mm_P1.27mm; Datasheet: http://www.ti.com/lit/ds/symlink/ref5030.pdf
pins: 1 DNC hidden, 2 Vin, 3 Temp, 4 GND, 5 Trim/NR, 6 Vout, 7 NC hidden, 8 DNC hidden

## REF5020ADGK
designator *  value REF5020ADGK  Reference: U
ki_keywords: Low Noise Precision Voltage Reference 2.048V; ki_description: 2.048V 0.1% 10mA Low Noise Precision Voltage Reference, MSOP-8; ki_fp_filters: MSOP*3x3mm*P0.65mm*; Footprint: Package_SO:MSOP-8_3x3mm_P0.65mm; Datasheet: http://www.ti.com/lit/ds/symlink/ref5030.pdf
pins: 1 DNC hidden, 2 Vin, 3 Temp, 4 GND, 5 Trim/NR, 6 Vout, 7 NC hidden, 8 DNC hidden

## REF5020ID
designator *  value REF5020ID  Reference: U
ki_keywords: Low Noise Precision Voltage Reference 2.048V; ki_description: 2.048V 0.05% 10mA Low Noise Precision Voltage Reference, SO-8; ki_fp_filters: SOIC*3.9x4.9mm*P1.27mm*; Footprint: Package_SO:SOIC-8_3.9x4.9mm_P1.27mm; Datasheet: http://www.ti.com/lit/ds/symlink/ref5030.pdf
pins: 1 DNC hidden, 2 Vin, 3 Temp, 4 GND, 5 Trim/NR, 6 Vout, 7 NC hidden, 8 DNC hidden

## REF5020IDGK
designator *  value REF5020IDGK  Reference: U
ki_keywords: Low Noise Precision Voltage Reference 2.048V; ki_description: 2.048V 0.05% 10mA Low Noise Precision Voltage Reference, MSOP-8; ki_fp_filters: MSOP*3x3mm*P0.65mm*; Footprint: Package_SO:MSOP-8_3x3mm_P0.65mm; Datasheet: http://www.ti.com/lit/ds/symlink/ref5030.pdf
pins: 1 DNC hidden, 2 Vin, 3 Temp, 4 GND, 5 Trim/NR, 6 Vout, 7 NC hidden, 8 DNC hidden

## REF5025AD
designator *  value REF5025AD  Reference: U
ki_keywords: Low Noise Precision Voltage Reference 2.5V; ki_description: 2.5V 0.1% 10mA Low Noise Precision Voltage Reference, SO-8; ki_fp_filters: SOIC*3.9x4.9mm*P1.27mm*; Footprint: Package_SO:SOIC-8_3.9x4.9mm_P1.27mm; Datasheet: http://www.ti.com/lit/ds/symlink/ref5030.pdf
pins: 1 DNC hidden, 2 Vin, 3 Temp, 4 GND, 5 Trim/NR, 6 Vout, 7 NC hidden, 8 DNC hidden

## REF5025ADGK
designator *  value REF5025ADGK  Reference: U
ki_keywords: Low Noise Precision Voltage Reference 2.5V; ki_description: 2.5V 0.1% 10mA Low Noise Precision Voltage Reference, MSOP-8; ki_fp_filters: MSOP*3x3mm*P0.65mm*; Footprint: Package_SO:MSOP-8_3x3mm_P0.65mm; Datasheet: http://www.ti.com/lit/ds/symlink/ref5030.pdf
pins: 1 DNC hidden, 2 Vin, 3 Temp, 4 GND, 5 Trim/NR, 6 Vout, 7 NC hidden, 8 DNC hidden

## REF5025ID
designator *  value REF5025ID  Reference: U
ki_keywords: Low Noise Precision Voltage Reference 2.5V; ki_description: 2.5V 0.05% 10mA Low Noise Precision Voltage Reference, SO-8; ki_fp_filters: SOIC*3.9x4.9mm*P1.27mm*; Footprint: Package_SO:SOIC-8_3.9x4.9mm_P1.27mm; Datasheet: http://www.ti.com/lit/ds/symlink/ref5030.pdf
pins: 1 DNC hidden, 2 Vin, 3 Temp, 4 GND, 5 Trim/NR, 6 Vout, 7 NC hidden, 8 DNC hidden

## REF5025IDGK
designator *  value REF5025IDGK  Reference: U
ki_keywords: Low Noise Precision Voltage Reference 2.5V; ki_description: 2.5V 0.05% 10mA Low Noise Precision Voltage Reference, MSOP-8; ki_fp_filters: MSOP*3x3mm*P0.65mm*; Footprint: Package_SO:MSOP-8_3x3mm_P0.65mm; Datasheet: http://www.ti.com/lit/ds/symlink/ref5030.pdf
pins: 1 DNC hidden, 2 Vin, 3 Temp, 4 GND, 5 Trim/NR, 6 Vout, 7 NC hidden, 8 DNC hidden

## REF5030AD
designator *  value REF5030AD  Reference: U
ki_keywords: Low Noise Precision Voltage Reference 3V; ki_description: 3V 0.1% 10mA Low Noise Precision Voltage Reference, SO-8; ki_fp_filters: SOIC*3.9x4.9mm*P1.27mm*; Footprint: Package_SO:SOIC-8_3.9x4.9mm_P1.27mm; Datasheet: http://www.ti.com/lit/ds/symlink/ref5030.pdf
pins: 1 DNC hidden, 2 Vin, 3 Temp, 4 GND, 5 Trim/NR, 6 Vout, 7 NC hidden, 8 DNC hidden

## REF5030ADGK
designator *  value REF5030ADGK  Reference: U
ki_keywords: Low Noise Precision Voltage Reference 3V; ki_description: 3V 0.1% 10mA Low Noise Precision Voltage Reference, MSOP-8; ki_fp_filters: MSOP*3x3mm*P0.65mm*; Footprint: Package_SO:MSOP-8_3x3mm_P0.65mm; Datasheet: http://www.ti.com/lit/ds/symlink/ref5030.pdf
pins: 1 DNC hidden, 2 Vin, 3 Temp, 4 GND, 5 Trim/NR, 6 Vout, 7 NC hidden, 8 DNC hidden

## REF5030ID
designator *  value REF5030ID  Reference: U
ki_keywords: Low Noise Precision Voltage Reference 3V; ki_description: 3V 0.05% 10mA Low Noise Precision Voltage Reference, SO-8; ki_fp_filters: SOIC*3.9x4.9mm*P1.27mm*; Footprint: Package_SO:SOIC-8_3.9x4.9mm_P1.27mm; Datasheet: http://www.ti.com/lit/ds/symlink/ref5030.pdf
pins: 1 DNC hidden, 2 Vin, 3 Temp, 4 GND, 5 Trim/NR, 6 Vout, 7 NC hidden, 8 DNC hidden

## REF5030IDGK
designator *  value REF5030IDGK  Reference: U
ki_keywords: Low Noise Precision Voltage Reference 3V; ki_description: 3V 0.05% 10mA Low Noise Precision Voltage Reference, MSOP-8; ki_fp_filters: MSOP*3x3mm*P0.65mm*; Footprint: Package_SO:MSOP-8_3x3mm_P0.65mm; Datasheet: http://www.ti.com/lit/ds/symlink/ref5030.pdf
pins: 1 DNC hidden, 2 Vin, 3 Temp, 4 GND, 5 Trim/NR, 6 Vout, 7 NC hidden, 8 DNC hidden

## REF5040AD
designator *  value REF5040AD  Reference: U
ki_keywords: Low Noise Precision Voltage Reference 4.096V; ki_description: 4.096V 0.1% 10mA Low Noise Precision Voltage Reference, SO-8; ki_fp_filters: SOIC*3.9x4.9mm*P1.27mm*; Footprint: Package_SO:SOIC-8_3.9x4.9mm_P1.27mm; Datasheet: http://www.ti.com/lit/ds/symlink/ref5030.pdf
pins: 1 DNC hidden, 2 Vin, 3 Temp, 4 GND, 5 Trim/NR, 6 Vout, 7 NC hidden, 8 DNC hidden

## REF5040ADGK
designator *  value REF5040ADGK  Reference: U
ki_keywords: Low Noise Precision Voltage Reference 4.096V; ki_description: 4.096V 0.1% 10mA Low Noise Precision Voltage Reference, MSOP-8; ki_fp_filters: MSOP*3x3mm*P0.65mm*; Footprint: Package_SO:MSOP-8_3x3mm_P0.65mm; Datasheet: http://www.ti.com/lit/ds/symlink/ref5030.pdf
pins: 1 DNC hidden, 2 Vin, 3 Temp, 4 GND, 5 Trim/NR, 6 Vout, 7 NC hidden, 8 DNC hidden

## REF5040ID
designator *  value REF5040ID  Reference: U
ki_keywords: Low Noise Precision Voltage Reference 4.096V; ki_description: 4.096V 0.05% 10mA Low Noise Precision Voltage Reference, SO-8; ki_fp_filters: SOIC*3.9x4.9mm*P1.27mm*; Footprint: Package_SO:SOIC-8_3.9x4.9mm_P1.27mm; Datasheet: http://www.ti.com/lit/ds/symlink/ref5030.pdf
pins: 1 DNC hidden, 2 Vin, 3 Temp, 4 GND, 5 Trim/NR, 6 Vout, 7 NC hidden, 8 DNC hidden

## REF5040IDGK
designator *  value REF5040IDGK  Reference: U
ki_keywords: Low Noise Precision Voltage Reference 4.096V; ki_description: 4.096V 0.05% 10mA Low Noise Precision Voltage Reference, MSOP-8; ki_fp_filters: MSOP*3x3mm*P0.65mm*; Footprint: Package_SO:MSOP-8_3x3mm_P0.65mm; Datasheet: http://www.ti.com/lit/ds/symlink/ref5030.pdf
pins: 1 DNC hidden, 2 Vin, 3 Temp, 4 GND, 5 Trim/NR, 6 Vout, 7 NC hidden, 8 DNC hidden

## REF5045AD
designator *  value REF5045AD  Reference: U
ki_keywords: Low Noise Precision Voltage Reference 4.5V; ki_description: 4.5V 0.1% 10mA Low Noise Precision Voltage Reference, SO-8; ki_fp_filters: SOIC*3.9x4.9mm*P1.27mm*; Footprint: Package_SO:SOIC-8_3.9x4.9mm_P1.27mm; Datasheet: http://www.ti.com/lit/ds/symlink/ref5030.pdf
pins: 1 DNC hidden, 2 Vin, 3 Temp, 4 GND, 5 Trim/NR, 6 Vout, 7 NC hidden, 8 DNC hidden

## REF5045ADGK
designator *  value REF5045ADGK  Reference: U
ki_keywords: Low Noise Precision Voltage Reference 4.5V; ki_description: 4.5V 0.1% 10mA Low Noise Precision Voltage Reference, MSOP-8; ki_fp_filters: MSOP*3x3mm*P0.65mm*; Footprint: Package_SO:MSOP-8_3x3mm_P0.65mm; Datasheet: http://www.ti.com/lit/ds/symlink/ref5030.pdf
pins: 1 DNC hidden, 2 Vin, 3 Temp, 4 GND, 5 Trim/NR, 6 Vout, 7 NC hidden, 8 DNC hidden

## REF5045ID
designator *  value REF5045ID  Reference: U
ki_keywords: Low Noise Precision Voltage Reference 4.5V; ki_description: 4.5V 0.05% 10mA Low Noise Precision Voltage Reference, SO-8; ki_fp_filters: SOIC*3.9x4.9mm*P1.27mm*; Footprint: Package_SO:SOIC-8_3.9x4.9mm_P1.27mm; Datasheet: http://www.ti.com/lit/ds/symlink/ref5030.pdf
pins: 1 DNC hidden, 2 Vin, 3 Temp, 4 GND, 5 Trim/NR, 6 Vout, 7 NC hidden, 8 DNC hidden

## REF5045IDGK
designator *  value REF5045IDGK  Reference: U
ki_keywords: Low Noise Precision Voltage Reference 4.5V; ki_description: 4.5V 0.05% 10mA Low Noise Precision Voltage Reference, MSOP-8; ki_fp_filters: MSOP*3x3mm*P0.65mm*; Footprint: Package_SO:MSOP-8_3x3mm_P0.65mm; Datasheet: http://www.ti.com/lit/ds/symlink/ref5030.pdf
pins: 1 DNC hidden, 2 Vin, 3 Temp, 4 GND, 5 Trim/NR, 6 Vout, 7 NC hidden, 8 DNC hidden

## REF5050AD
designator *  value REF5050AD  Reference: U
ki_keywords: Low Noise Precision Voltage Reference 5V; ki_description: 5V 0.1% 10mA Low Noise Precision Voltage Reference, SO-8; ki_fp_filters: SOIC*3.9x4.9mm*P1.27mm*; Footprint: Package_SO:SOIC-8_3.9x4.9mm_P1.27mm; Datasheet: http://www.ti.com/lit/ds/symlink/ref5030.pdf
pins: 1 DNC hidden, 2 Vin, 3 Temp, 4 GND, 5 Trim/NR, 6 Vout, 7 NC hidden, 8 DNC hidden

## REF5050ADGK
designator *  value REF5050ADGK  Reference: U
ki_keywords: Low Noise Precision Voltage Reference 5V; ki_description: 5V 0.1% 10mA Low Noise Precision Voltage Reference, MSOP-8; ki_fp_filters: MSOP*3x3mm*P0.65mm*; Footprint: Package_SO:MSOP-8_3x3mm_P0.65mm; Datasheet: http://www.ti.com/lit/ds/symlink/ref5030.pdf
pins: 1 DNC hidden, 2 Vin, 3 Temp, 4 GND, 5 Trim/NR, 6 Vout, 7 NC hidden, 8 DNC hidden

## REF5050ID
designator *  value REF5050ID  Reference: U
ki_keywords: Low Noise Precision Voltage Reference 5V; ki_description: 5V 0.05% 10mA Low Noise Precision Voltage Reference, SO-8; ki_fp_filters: SOIC*3.9x4.9mm*P1.27mm*; Footprint: Package_SO:SOIC-8_3.9x4.9mm_P1.27mm; Datasheet: http://www.ti.com/lit/ds/symlink/ref5030.pdf
pins: 1 DNC hidden, 2 Vin, 3 Temp, 4 GND, 5 Trim/NR, 6 Vout, 7 NC hidden, 8 DNC hidden

## REF5050IDGK
designator *  value REF5050IDGK  Reference: U
ki_keywords: Low Noise Precision Voltage Reference 5V; ki_description: 5V 0.05% 10mA Low Noise Precision Voltage Reference, MSOP-8; ki_fp_filters: MSOP*3x3mm*P0.65mm*; Footprint: Package_SO:MSOP-8_3x3mm_P0.65mm; Datasheet: http://www.ti.com/lit/ds/symlink/ref5030.pdf
pins: 1 DNC hidden, 2 Vin, 3 Temp, 4 GND, 5 Trim/NR, 6 Vout, 7 NC hidden, 8 DNC hidden

## REF6025xDGK
designator *  value REF6025xDGK  Reference: U
ki_keywords: low Noise precision voltage reference; ki_description: 2.5V 0.05% 4mA Extremely Low Noise High Precision Voltage Reference, VSSOP-8; ki_fp_filters: VSSOP*3.0x3.0mm*P0.65mm*; Footprint: Package_SO:VSSOP-8_3.0x3.0mm_P0.65mm; Datasheet: https://www.ti.com/lit/ds/symlink/ref6025.pdf
pins: 1 VIN, 2 EN, 3 SS, 4 FILT, 5 OUT_S, 6 OUT_F, 7 GND_F, 8 GND_S

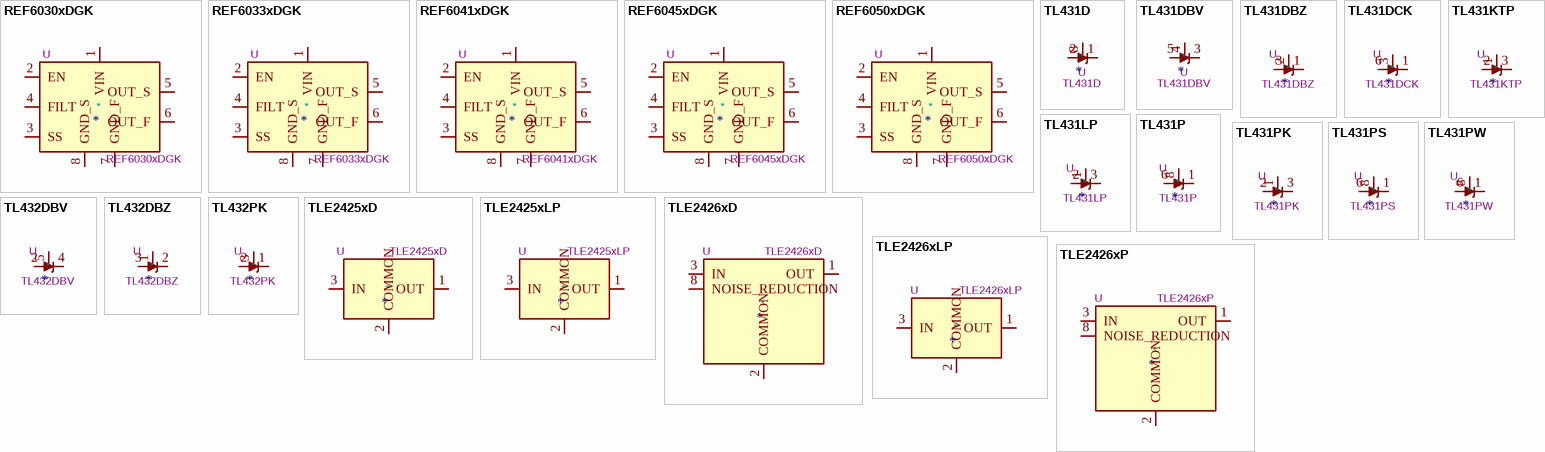
[diagram p6: symbols REF6030xDGK to TLE2426xP]

## REF6030xDGK
designator *  value REF6030xDGK  Reference: U
ki_keywords: low Noise precision voltage reference; ki_description: 3.0V 0.05% 4mA Extremely Low Noise High Precision Voltage Reference, VSSOP-8; ki_fp_filters: VSSOP*3.0x3.0mm*P0.65mm*; Footprint: Package_SO:VSSOP-8_3.0x3.0mm_P0.65mm; Datasheet: https://www.ti.com/lit/ds/symlink/ref6025.pdf
pins: 1 VIN, 2 EN, 3 SS, 4 FILT, 5 OUT_S, 6 OUT_F, 7 GND_F, 8 GND_S

## REF6033xDGK
designator *  value REF6033xDGK  Reference: U
ki_keywords: low Noise precision voltage reference; ki_description: 3.3V 0.05% 4mA Extremely Low Noise High Precision Voltage Reference, VSSOP-8; ki_fp_filters: VSSOP*3.0x3.0mm*P0.65mm*; Footprint: Package_SO:VSSOP-8_3.0x3.0mm_P0.65mm; Datasheet: https://www.ti.com/lit/ds/symlink/ref6025.pdf
pins: 1 VIN, 2 EN, 3 SS, 4 FILT, 5 OUT_S, 6 OUT_F, 7 GND_F, 8 GND_S

## REF6041xDGK
designator *  value REF6041xDGK  Reference: U
ki_keywords: low Noise precision voltage reference; ki_description: 4.1V 0.05% 4mA Extremely Low Noise High Precision Voltage Reference, VSSOP-8; ki_fp_filters: VSSOP*3.0x3.0mm*P0.65mm*; Footprint: Package_SO:VSSOP-8_3.0x3.0mm_P0.65mm; Datasheet: https://www.ti.com/lit/ds/symlink/ref6025.pdf
pins: 1 VIN, 2 EN, 3 SS, 4 FILT, 5 OUT_S, 6 OUT_F, 7 GND_F, 8 GND_S

## REF6045xDGK
designator *  value REF6045xDGK  Reference: U
ki_keywords: low Noise precision voltage reference; ki_description: 4.5V 0.05% 4mA Extremely Low Noise High Precision Voltage Reference, VSSOP-8; ki_fp_filters: VSSOP*3.0x3.0mm*P0.65mm*; Footprint: Package_SO:VSSOP-8_3.0x3.0mm_P0.65mm; Datasheet: https://www.ti.com/lit/ds/symlink/ref6025.pdf
pins: 1 VIN, 2 EN, 3 SS, 4 FILT, 5 OUT_S, 6 OUT_F, 7 GND_F, 8 GND_S

## REF6050xDGK
designator *  value REF6050xDGK  Reference: U
ki_keywords: low Noise precision voltage reference; ki_description: 5.0V 0.05% 4mA Extremely Low Noise High Precision Voltage Reference, VSSOP-8; ki_fp_filters: VSSOP*3.0x3.0mm*P0.65mm*; Footprint: Package_SO:VSSOP-8_3.0x3.0mm_P0.65mm; Datasheet: https://www.ti.com/lit/ds/symlink/ref6025.pdf
pins: 1 VIN, 2 EN, 3 SS, 4 FILT, 5 OUT_S, 6 OUT_F, 7 GND_F, 8 GND_S

## TL431D
designator *  value TL431D  Reference: U
ki_keywords: diode device shunt regulator; ki_description: Shunt Regulator, SO-8; ki_fp_filters: SOIC?8*3.9x4.9mm*P1.27mm*; Footprint: Package_SO:SOIC-8_3.9x4.9mm_P1.27mm; Datasheet: http://www.ti.com/lit/ds/symlink/tl431.pdf
pins: 1 K, 2 A, 3 A hidden, 6 A hidden, 7 A hidden, 8 REF

## TL431DBV
designator *  value TL431DBV  Reference: U
ki_keywords: diode device shunt regulator; ki_description: Shunt Regulator, SOT-23-5; ki_fp_filters: SOT?23?5*; Footprint: Package_TO_SOT_SMD:SOT-23-5; Datasheet: http://www.ti.com/lit/ds/symlink/tl431.pdf
pins: 3 K, 4 REF, 5 A

## TL431DBZ
designator *  value TL431DBZ  Reference: U
ki_keywords: diode device shunt regulator; ki_description: Shunt Regulator, SOT-23; ki_fp_filters: SOT?23*; Footprint: Package_TO_SOT_SMD:SOT-23; Datasheet: http://www.ti.com/lit/ds/symlink/tl431.pdf
pins: 1 K, 2 REF, 3 A

## TL431DCK
designator *  value TL431DCK  Reference: U
ki_keywords: diode device shunt regulator; ki_description: Shunt Regulator, SC-70; ki_fp_filters: *SC?70*; Footprint: Package_TO_SOT_SMD:SOT-363_SC-70-6; Datasheet: http://www.ti.com/lit/ds/symlink/tl431.pdf
pins: 1 K, 3 REF, 6 A

## TL431KTP
designator *  value TL431KTP  Reference: U
ki_keywords: diode device shunt regulator; ki_description: Shunt Regulator, TO-252; ki_fp_filters: TO*252*; Footprint: Package_TO_SOT_SMD:TO-252-2; Datasheet: http://www.jameco.com/Jameco/Products/ProdDS/760499.pdf
pins: 1 REF, 2 A, 3 K

## TL431LP
designator *  value TL431LP  Reference: U
ki_keywords: diode device regulator shunt; ki_description: Shunt Regulator, TO-92; ki_fp_filters: TO*92*; Footprint: Package_TO_SOT_THT:TO-92_Inline; Datasheet: http://www.ti.com/lit/ds/symlink/tl431.pdf
pins: 1 REF, 2 A, 3 K

## TL431P
designator *  value TL431P  Reference: U
ki_keywords: diode device shunt regulator; ki_description: Shunt Regulator, PDIP-8; ki_fp_filters: DIP*W7.62mm*; Footprint: Package_DIP:DIP-8_W7.62mm; Datasheet: http://www.ti.com/lit/ds/symlink/tl431.pdf
pins: 1 K, 6 A, 8 REF

## TL431PK
designator *  value TL431PK  Reference: U
ki_keywords: diode device shunt regulator; ki_description: Shunt Regulator, SOT-89; ki_fp_filters: SOT*89*; Footprint: Package_TO_SOT_SMD:SOT-89-3; Datasheet: http://www.ti.com/lit/ds/symlink/tl431.pdf
pins: 1 REF, 2 A, 3 K

## TL431PS
designator *  value TL431PS  Reference: U
ki_keywords: diode device shunt regulator; ki_description: Shunt Regulator, MSOP-8; ki_fp_filters: MSOP*3x3mm*P0.65mm*; Footprint: Package_SO:MSOP-8_3x3mm_P0.65mm; Datasheet: http://www.ti.com/lit/ds/symlink/tl431.pdf
pins: 1 K, 6 A, 8 REF

## TL431PW
designator *  value TL431PW  Reference: U
ki_keywords: diode device shunt regulator; ki_description: Shunt Regulator, TSSOP-8; ki_fp_filters: TSSOP*3x3mm*P0.65mm*; Footprint: Package_SO:TSSOP-8_3x3mm_P0.65mm; Datasheet: http://www.ti.com/lit/ds/symlink/tl431.pdf
pins: 1 K, 6 A, 8 REF